# Altium schematic symbol library Schottky_single.SchLib: 1 symbol
Pins are listed as number, name and electrical type; pins without a type are passive.

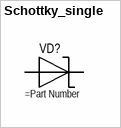
[diagram p0: symbol Schottky_single]

## Schottky_single
designator VD?
pins: 1, 2